# Altium integrated library 9-1879274-2.IntLib: 1 symbol
Pins are listed as number, name and electrical type; pins without a type are passive.

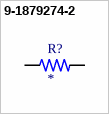
[diagram p0: symbol 9-1879274-2]

## 9-1879274-2
designator R?
RP 2A 2K37 0.1% 15PPM 1K RL; MP: 9-1879274-2; Package: None; Price: None; Value: *; Availability: Unavailable
footprint RESC2012X65N
pins: 1, 2